# Altium footprint library Project.PcbLib: 46 footprints (part 1 of 3)
Each footprint in its own frame and in the unit in brackets; x right, y up, seen from the top. Pads: shape width x height; smd on the part's side, far side on the other; paste and mask are expansions set on the pad; w line width, h text height; cw(c..) or ccw(c..) is an arc to the next point about the centre after c.
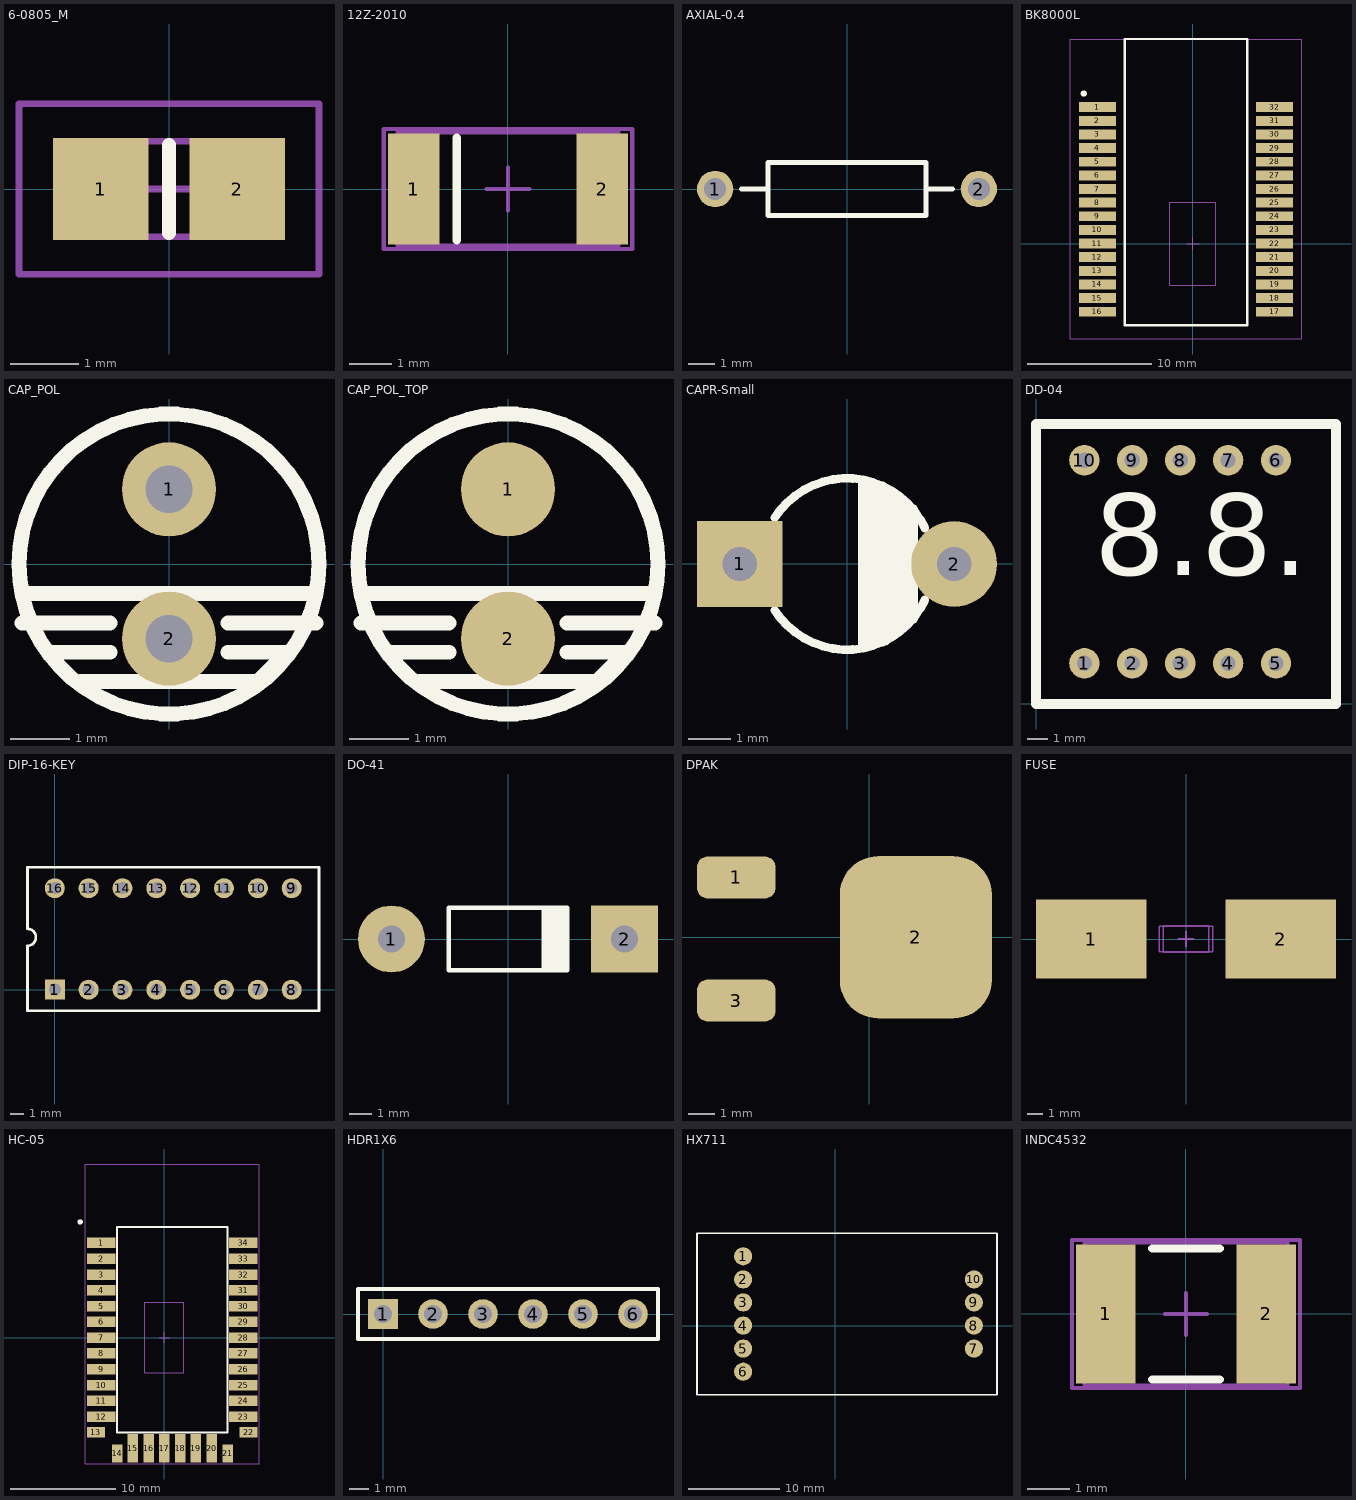
[diagram p0: the footprints below, top view; thin cyan lines are the x and y axes]

## 6-0805_M [mm] "Chip Resistor, Body 2.0x1.2mm, IPC Low Density"
height 0.7
pads (2):
  rect 1.4x1.5 smd: 1(-1,0) 2(1,0)
Top Overlay:
  lines w0.2: 0,-0.65 0,0.65
Mechanical 13:
  lines w0.1: -1.075,-0.7 1.075,-0.7 1.075,0.7 -1.075,0.7 -1.075,-0.7
Mechanical 15:
  lines w0.1: -0.5,0 0.5,0 ; 0,-0.5 0,0.5 ; -2.2,-1.25 2.2,-1.25 2.2,1.25 -2.2,1.25 -2.2,-1.25
3D body: height 0.7, standoff 0, extent -1.075,-0.7 1.075,0.7

## 12Z-2010 [mm] "Chip Resistor, Body 5.0x2.5mm, IPC High Density"
height 0.9
pads (2):
  rect 1.2x2.6 smd: 1(-2.2,0) 2(2.2,0)
Top Overlay:
  lines w0.2: -1.2,-1.2 -1.2,1.2
Mechanical 13:
  lines w0.1: -2.575,-1.325 -2.575,1.325 2.575,1.325 2.575,-1.325 -2.575,-1.325
Mechanical 15:
  lines w0.1: -0.5,0 0.5,0 ; 0,-0.5 0,0.5 ; -2.9,-1.4 -2.9,1.4 2.9,1.4 2.9,-1.4 -2.9,-1.4
3D body: height 0.9, standoff 0, extent -2.575,-1.325 2.575,1.325

## AXIAL-0.4 [mm] "Axial Device, Thru-Hole; 2 Leads; 0.4 in Pin Spacing"
height 2.032
pads (2):
  round 1.4 hole 0.85: 1(-5.08,0) 2(5.08,0)
Top Overlay:
  lines w0.2: -4.064,0 -3.048,0 ; 3.048,0 4.064,0 ; -3.048,-1.016 -3.048,1.016 3.048,1.016 3.048,-1.016 -3.048,-1.016

## BK8000L [mm] "Bluetooth module"
height 1.7
pads (32):
  rect 3x0.8 smd: 1(-7.7,11) 2(-7.7,9.9) 3(-7.7,8.8) 4(-7.7,7.7) 5(-7.7,6.6) 6(-7.7,5.5) 7(-7.7,4.4) 8(-7.7,3.3) 9(-7.7,2.2) 10(-7.7,1.1) 11(-7.7,0) 12(-7.7,-1.1) 13(-7.7,-2.2) 14(-7.7,-3.3) 15(-7.7,-4.4) 16(-7.7,-5.5) 17(6.6,-5.5) 18(6.6,-4.4) 19(6.6,-3.3) 20(6.6,-2.2) 21(6.6,-1.1) 22(6.6,0) 23(6.6,1.1) 24(6.6,2.2) 25(6.6,3.3) 26(6.6,4.4) 27(6.6,5.5) 28(6.6,6.6) 29(6.6,7.7) 30(6.6,8.8) 31(6.6,9.9) 32(6.6,11)
Top Overlay:
  circle w0.25: c-8.8,12.1 r0.125
  lines w0.2: -5.5,-6.6 -5.5,16.5 4.4,16.5 4.4,-6.6 -5.5,-6.6
Mechanical 13:
  lines w0.1: -1.85,-3.35 -1.85,3.35 1.85,3.35 1.85,-3.35 -1.85,-3.35
Mechanical 15:
  lines w0.1: -0.5,0 0.5,0 ; 0,-0.5 0,0.5 ; -9.9,-7.7 -9.9,16.5 8.8,16.5 8.8,-7.7 -9.9,-7.7
3D body: height 1.7, standoff 0, extent -5.5,-6.6 4.4,16.5

## CAP_POL [mm] "Capacitor"
pads (2):
  round 1.6 hole 0.8: 1(0,1.27) 2(0,-1.27)
Top Overlay:
  circle w0.254: c0,0 r2.55
  lines w0.254: -2.5,-1 -1,-1 ; -2.5,-0.5 2.5,-0.5 ; -2,-1.5 -1,-1.5 ; -1.5,-2 1.5,-2 2,-1.5 1,-1.5 ; 1,-1 2.5,-1

## CAP_POL_TOP [mm] "Capacitor"
pads (2):
  round 1.6 smd: 1(0,1.27) 2(0,-1.27)
Top Overlay:
  circle w0.254: c0,0 r2.55
  lines w0.254: -2.5,-1 -1,-1 ; -2.5,-0.5 2.5,-0.5 ; -2,-1.5 -1,-1.5 ; -1.5,-2 1.5,-2 2,-1.5 1,-1.5 ; 1,-1 2.5,-1

## CAPR-Small [mm] "Capacitor; 2 Leads"
height 12
pads (2):
  rect 2x2 hole 0.8: 1(-2.5,0)
  round 2 hole 0.8: 2(2.5,0)
Top Overlay:
  rectangle: 0.381,-1.524 1.397,1.524
  lines w0.2: -1.687,-1.075 ccw(c0,0) 1.819,-0.832 ; -1.687,1.075 cw(c0,0) 1.819,0.832
  lines w0.254: 0.381,-1.524 0.762,-1.524 ; 0.381,1.651 0.889,1.651 1.016,1.524 ; 0.381,1.905 0.381,-1.905 0.762,-1.524 ; 0.508,1.778 0.635,1.778 ; 0.635,-1.778 0.889,-1.778 ; 1.016,-1.524 0.762,-1.524 ; 1.524,-1.27 1.524,1.27

## DD-04 [mil] "светодиодный цифровой индикатор"
height 8
pads (10):
  round 60 hole 30: 1(95.28,80) 2(189.57,80) 3(283.86,80) 4(378.15,80) 5(472.44,80) 6(472.44,480) 7(378.15,480) 8(283.86,480) 9(189.57,480) 10(95.28,480)
Top Overlay:
  lines w19.68: 0,0 0,551.18 590.55,551.18 590.55,0 0,0
  text "8.8." at 115,200 h275.59

## DIP-16-KEY [mm] "DIP; 16 Leads; Row Spacing 7.62 mm; Pitch 2.54 mm"
pads (16):
  rect 1.5x1.5 hole 0.9: 1(0,0)
  round 1.5 hole 0.9: 2(2.54,0) 3(5.08,0) 4(7.62,0) 5(10.16,0) 6(12.7,0) 7(15.24,0) 8(17.78,0) 9(17.78,7.62) 10(15.24,7.62) 11(12.7,7.62) 12(10.16,7.62) 13(7.62,7.62) 14(5.08,7.62) 15(2.54,7.62) 16(0,7.62)
Top Overlay:
  lines w0.2: -2.05,4.57 cw(c-2.05,3.935) -2.05,3.3 -2.05,-1.59 19.83,-1.59 19.83,9.2 -2.05,9.2 -2.05,4.6

## DO-41 [mm] "Diode, Axial; Body 5.2 x 2.7 mm (LxDia. max), Lead Dia. 0.86 mm (max)"
height 2.8
pads (2):
  round 3 hole 1.2: 1(-5.23,0)
  rect 3x3 hole 1.2: 2(5.23,0)
Top Overlay:
  rectangle: 1.5,-1.4 2.75,1.4
  lines w0.2: 2.65,-1.4 -2.65,-1.4 -2.65,1.4 2.65,1.4

## DPAK [mm]
pads (3):
  rrect50% 3x1.6 smd: 1(-5.08,2.286) 3(-5.08,-2.413)
  rrect50% 5.8x6.2 smd: 2(1.778,0)

## FUSE [mm] "Fuse 12V"
height 1.3
pads (2):
  rect 7x5 smd: 1(-6,0) 2(6,0)
Mechanical 13:
  lines w0.1: -1.45,-0.825 -1.45,0.825 1.45,0.825 1.45,-0.825 -1.45,-0.825
Mechanical 15:
  lines w0.1: -0.5,0 0.5,0 ; 0,-0.5 0,0.5 ; -1.7,-0.8 -1.7,0.8 1.7,0.8 1.7,-0.8 -1.7,-0.8
3D body: height 1.3, standoff 0, extent -1.45,-0.825 1.45,0.825

## HC-05 [mm] "SOT223, 4-Leads, Body Bluetooth module"
height 1.7
pads (34):
  rect 2.7x1 smd: 1(-6,9) 2(-6,7.5) 3(-6,6) 4(-6,4.5) 5(-6,3) 6(-6,1.5) 7(-6,0) 8(-6,-1.5) 9(-6,-3) 10(-6,-4.5) 11(-6,-6) 12(-6,-7.5) 23(7.5,-7.5) 24(7.5,-6) 25(7.5,-4.5) 26(7.5,-3) 27(7.5,-1.5) 28(7.5,0) 29(7.5,1.5) 30(7.5,3) 31(7.5,4.5) 32(7.5,6) 33(7.5,7.5) 34(7.5,9)
  rect 1.7x1 smd: 13(-6.5,-9) 22(8,-9)
  rect 1x1.7 smd: 14(-4.5,-11) 21(6,-11)
  rect 1x2.7 smd: 15(-3,-10.5) 16(-1.5,-10.5) 17(0,-10.5) 18(1.5,-10.5) 19(3,-10.5) 20(4.5,-10.5)
Top Overlay:
  circle w0.25: c-8,11 r0.125
  lines w0.2: -4.5,-9 6,-9 6,10.5 -4.5,10.5 -4.5,-9
Mechanical 13:
  lines w0.1: -1.85,-3.35 1.85,-3.35 1.85,3.35 -1.85,3.35 -1.85,-3.35
Mechanical 15:
  lines w0.1: -0.5,0 0.5,0 ; 0,-0.5 0,0.5 ; -7.5,-12 9,-12 9,16.5 -7.5,16.5 -7.5,-12
3D body: height 1.7, standoff 0, extent -4.5,-9 6,16.5

## HDR1X6 [mm] "Connector; Header; 6 Position"
pads (6):
  rect 1.5x1.5 hole 0.9: 1(0,0)
  round 1.5 hole 0.9: 2(2.54,0) 3(5.08,0) 4(7.62,0) 5(10.16,0) 6(12.7,0)
Top Overlay:
  lines w0.2: -1.27,-1.27 -1.27,1.27 13.97,1.27 13.97,-1.27 -1.27,-1.27

## HX711 [mm] "Pressure controller"
height 2.032
pads (10):
  round 2 smd: 1(-10.16,7.62) 2(-10.16,5.08) 3(-10.16,2.54) 4(-10.16,0) 5(-10.16,-2.54) 6(-10.16,-5.08) 7(15.24,-2.54) 8(15.24,0) 9(15.24,2.54) 10(15.24,5.08)
Top Overlay:
  lines w0.2: -15.24,-7.62 -15.24,10.16 17.78,10.16 17.78,-7.62 -15.24,-7.62

## INDC4532 [mm] "Chip Inductor, Body 4.5x3.2mm, IPC High Density"
height 0.55
pads (2):
  rect 1.4x3.3 smd: 1(-1.9,0) 2(1.9,0)
Top Overlay:
  lines w0.2: -0.8,-1.55 0.8,-1.55 ; -0.8,1.55 0.8,1.55
Mechanical 13:
  lines w0.1: -2.4,-1.7 2.4,-1.7 2.4,1.7 -2.4,1.7 -2.4,-1.7
Mechanical 15:
  lines w0.1: -0.5,0 0.5,0 ; 0,-0.5 0,0.5 ; -2.7,-1.75 2.7,-1.75 2.7,1.75 -2.7,1.75 -2.7,-1.75
3D body: height 0.55, standoff 0, extent -2.4,-1.7 2.4,1.7